# EAGLE library part STP16DPS05TTR (library ST Microelectronics)
LED sink driver
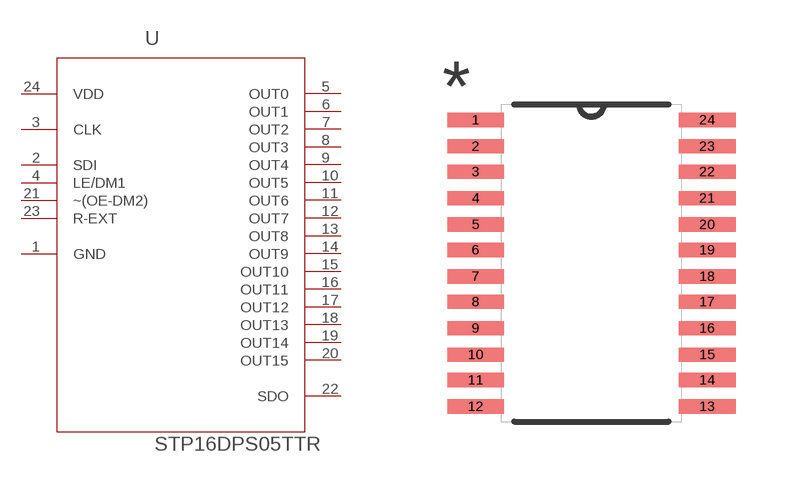
[diagram p384: symbol with the pads of SOP65P637X110-24N; footprint SOP65P637X110-24N]

Designator prefix U

## STP16DPS05TTR (MPN: STP16DPS05TTR; OC_FARNELL: -; OC_NEWARK: 71R7071; PACKAGE: TSSOP-24; SUPPLIER: STMICROELECTRONICS)  [SOP65P637X110-24N]
1  GND  pas
2  SDI  in
3  CLK  in
4  LE/DM1  in
5  OUT0  out
6  OUT1  out
7  OUT2  out
8  OUT3  out
9  OUT4  out
10  OUT5  out
11  OUT6  out
12  OUT7  out
13  OUT8  out
14  OUT9  out
15  OUT10  out
16  OUT11  out
17  OUT12  out
18  OUT13  out
19  OUT14  out
20  OUT15  out
21  ~(OE-DM2)  in
22  SDO  out
23  R-EXT  in
24  VDD  pwr

## Footprint SOP65P637X110-24N (pad centres in mm)
smd 1.422 x 0.356: 1 -2.896,3.581; 2 -2.896,2.921; 3 -2.896,2.286; 4 -2.896,1.626; 5 -2.896,0.965; 6 -2.896,0.33; 7 -2.896,-0.33; 8 -2.896,-0.965; 9 -2.896,-1.626; 10 -2.896,-2.286; 11 -2.896,-2.921; 12 -2.896,-3.581; 13 2.896,-3.581; 14 2.896,-2.921; 15 2.896,-2.286; 16 2.896,-1.626; 17 2.896,-0.965; 18 2.896,-0.33; 19 2.896,0.33; 20 2.896,0.965; 21 2.896,1.626; 22 2.896,2.286; 23 2.896,2.921; 24 2.896,3.581